# Altium footprint library SMBJ-XXCA.PcbLib: 1 footprints
Each footprint in its own frame and in the unit in brackets; x right, y up, seen from the top. Pads: shape width x height; smd on the part's side, far side on the other; paste and mask are expansions set on the pad; w line width, h text height; cw(c..) or ccw(c..) is an arc to the next point about the centre after c.
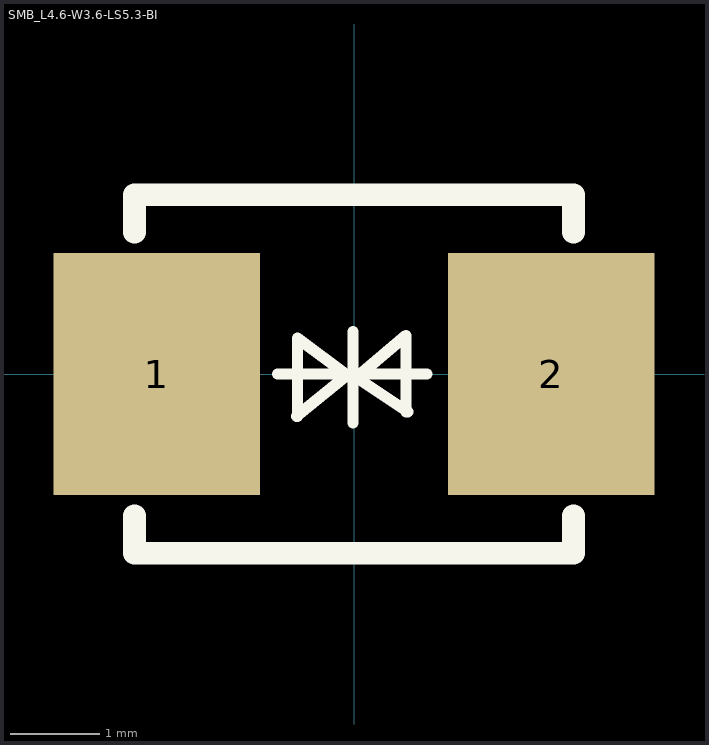
[diagram p0: the footprint, top view; thin cyan lines are the x and y axes]

## SMB_L4.6-W3.6-LS5.3-BI [mm]
pads (2):
  rect 2.3x2.7 smd: 1(-2.2,0) 2(2.2,0)
Top Overlay:
  lines w0.127: -0.85,0 0.81,0 ; -0.64,-0.47 -0.077,-0.01 -0.63,0.4 -0.63,-0.47 ; -0.011,-0.546 -0.011,0.47 ; 0.58,-0.42 0.58,0.43 0.028,-0.04 0.6,-0.42
  lines w0.254: -2.45,-1.581 -2.45,-2 2.45,-2 2.45,-1.581 ; -2.45,1.581 -2.45,2 2.45,2 2.45,1.581